# Altium schematic symbol library Schlib_DC connector.SchLib: 1 symbol
Pins are listed as number, name and electrical type; pins without a type are passive.

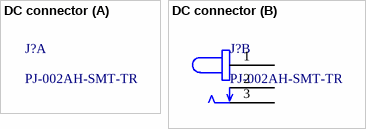
[diagram p0: symbol DC connector]

## DC connector
designator J?, comment PJ-002AH-SMT-TR
SMD DC Power Connectors ROHS; Manufacturer: CUI; ComponentLink1Description: snapeda link; ComponentLink1URL: https://www.snapeda.com/parts/PJ-002AH-SMT-TR/CUI%20Devices/view-part/?ref=search&t=DC%20connector%20SMD; ComponentLink2Description: datasheet; ComponentLink2URL: https://www.snapeda.com/parts/PJ-002AH-SMT-TR/CUI%20Devices/datasheet/; Manufacturer part number: PJ-002AH-SMT-TR; supplier: LCSC; supplier part number: C22434687; package: SMD
footprint PCBComponent_1
part B pins: 1, 2, 3